# EAGLE library part MMS-104-02-L-SV (library smd2mmpitch)
CONN SOCKET, 2.0MM, VERT, 1X4WAY
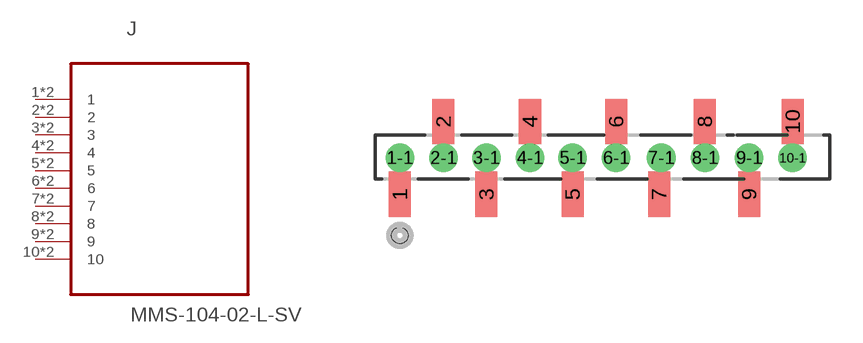
[diagram p0: symbol with the pads of SAMTEC_MMS-104-02-L-SV; footprint SAMTEC_MMS-104-02-L-SV]

Designator prefix J

## MMS-104-02-L-SV (MPN: MMS-104-02-L-SV; OC_FARNELL: 1804166; OC_NEWARK: 11P5306; PACKAGE: SOCKET, 2.0MM, VERT, 1X4WAY; SUPPLIER: SAMTEC)  [SAMTEC_MMS-104-02-L-SV]
1  1  pas
1-1  1  pas
2  2  pas
2-1  2  pas
3  3  pas
3-1  3  pas
4  4  pas
4-1  4  pas
5  5  pas
5-1  5  pas
6  6  pas
6-1  6  pas
7  7  pas
7-1  7  pas
8  8  pas
8-1  8  pas
9  9  pas
9-1  9  pas
10  10  pas
10-1  10  pas

## Footprint SAMTEC_MMS-104-02-L-SV (pad centres in mm)
smd 1.016 x 2.083: 1 -5.994,0; 2 -3.988,3.353; 3 -2.007,0; 4 0,3.353; 5 1.961,0; 6 3.967,3.353; 7 5.948,0; 8 8.055,3.353; 9 10.093,0; 10 12.1,3.353
drill 0.813: 1-1 -5.994,1.676; 2-1 -3.988,1.676; 3-1 -2.007,1.676; 4-1 0,1.676; 5-1 1.961,1.676; 6-1 3.967,1.676; 7-1 6.048,1.676; 8-1 8.055,1.676; 9-1 10.093,1.676; 10-1 12.1,1.676